# Altium schematic symbol library SCH - LDO - LT6654xxS.SCHLIB: 1 symbol
Pins are listed as number, name and electrical type; pins without a type are passive.

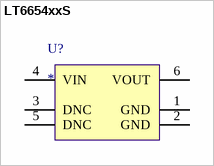
[diagram p0: symbol LT6654xxS]

## LT6654xxS
designator U?
pins: 1 GND (power), 2 GND (power), 3 DNC, 4 VIN (power), 5 DNC, 6 VOUT (power)